# Altium footprint library MLACHM_M.PCBLIB: 91 footprints (part 1 of 7)
Each footprint in its own frame and in the unit in brackets; x right, y up, seen from the top. Pads: shape width x height; smd on the part's side, far side on the other; paste and mask are expansions set on the pad; w line width, h text height; cw(c..) or ccw(c..) is an arc to the next point about the centre after c.
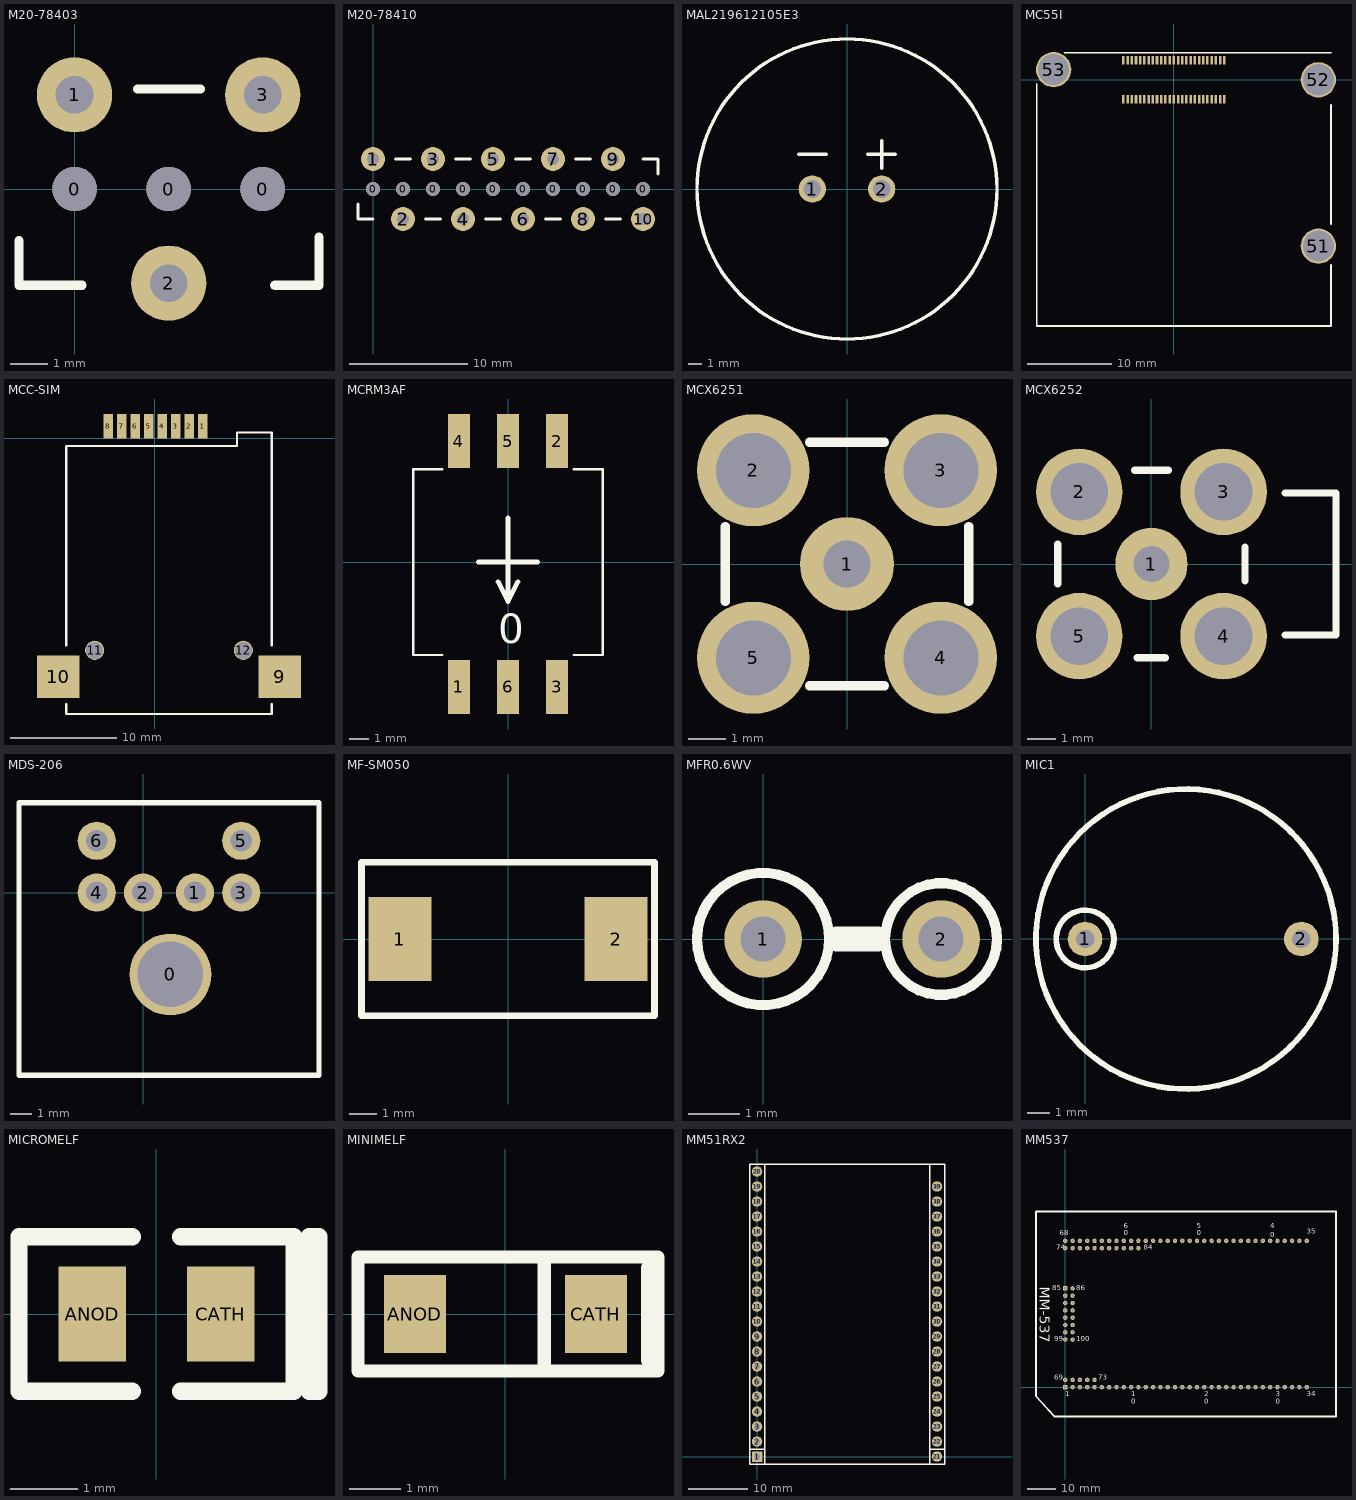
[diagram p0: the footprints below, top view; thin cyan lines are the x and y axes]

## M20-78403 [mm]
pads (6):
  round 1.2 hole 1.2: 0(0,0) 0(2.54,0) 0(5.08,0)
  round 2.032 hole 1.016: 1(0,2.54) 2(2.54,-2.54) 3(5.08,2.54)
TopOverlay:
  lines w0.254: -1.5,-1.4 -1.5,-2.6 0.2,-2.6 ; 1.7,2.7 3.4,2.7 ; 5.4,-2.6 6.6,-2.6 6.6,-1.3
3D body: height 5, standoff -3, extent -1.52,-2.665 6.6,2.665

## M20-78410 [mm]
pads (20):
  round 1.2 hole 1.2: 0(0,0) 0(2.54,0) 0(5.08,0) 0(7.62,0) 0(10.16,0) 0(12.7,0) 0(15.24,0) 0(17.78,0) 0(20.32,0) 0(22.86,0)
  round 2.032 hole 1.016: 1(0,2.54) 2(2.54,-2.54) 3(5.08,2.54) 4(7.62,-2.54) 5(10.16,2.54) 6(12.7,-2.54) 7(15.24,2.54) 8(17.78,-2.54) 9(20.32,2.54) 10(22.86,-2.54)
TopOverlay:
  lines w0.254: -1.27,-1.27 -1.27,-2.54 0,-2.54 ; 1.905,2.54 2.54,2.54 3.175,2.54 ; 4.445,-2.54 5.715,-2.54 ; 6.985,2.54 8.255,2.54 ; 9.525,-2.54 10.795,-2.54 ; 12.065,2.54 13.335,2.54 ; 14.605,-2.54 15.875,-2.54 ; 17.145,2.54 18.415,2.54 ; 19.685,-2.54 20.955,-2.54 ; 22.86,2.54 23.495,2.54 24.13,2.54 24.13,1.27
3D body: height 5, standoff -3, extent -1.52,-2.665 24.38,2.665

## MAL219612105E3 [mm]
pads (2):
  round 2 hole 1.3: 1(-2.54,0) 2(2.54,0)
TopOverlay:
  circle w0.254: c0,0 r11
  lines w0.254: -3.556,2.54 -1.524,2.54 ; 1.524,2.54 3.556,2.54 ; 2.54,1.524 2.54,3.556
3D body: height 9, standoff 0, extent -10.991,-10.978 10.922,10.978

## MC55I [mm]
pads (53):
  rect 0.3x1 smd: 1(6,-2.3) 2(5.5,-2.3) 3(5,-2.3) 4(4.5,-2.3) 5(4,-2.3) 6(3.5,-2.3) 7(3,-2.3) 8(2.5,-2.3) 9(2,-2.3) 10(1.5,-2.3) 11(1,-2.3) 12(0.5,-2.3) 13(0,-2.3) 14(-0.5,-2.3) 15(-1,-2.3) 16(-1.5,-2.3) 17(-2,-2.3) 18(-2.5,-2.3) 19(-3,-2.3) 20(-3.5,-2.3) 21(-4,-2.3) 22(-4.5,-2.3) 23(-5,-2.3) 24(-5.5,-2.3) 25(-6,-2.3) 26(-6,2.3) 27(-5.5,2.3) 28(-5,2.3) 29(-4.5,2.3) 30(-4,2.3) 31(-3.5,2.3) 32(-3,2.3) 33(-2.5,2.3) 34(-2,2.3) 35(-1.5,2.3) 36(-1,2.3) 37(-0.5,2.3) 38(0,2.3) 39(0.5,2.3) 40(1,2.3) 41(1.5,2.3) 42(2,2.3) 43(2.5,2.3) 44(3,2.3) 45(3.5,2.3) 46(4,2.3) 47(4.5,2.3) 48(5,2.3) 49(5.5,2.3) 50(6,2.3)
  round 4.2 hole 3.7: 51(17.2,-19.8) 52(17.2,0) 53(-14.3,1.2)
TopOverlay:
  lines w0.203: -16.3,-0.5 -16.3,-29.3 18.7,-29.3 18.7,-22 ; -13,3.2 18.7,3.2 ; 18.7,-17.2 18.7,-3

## MCC-SIM [mm]
pads (12):
  rect 0.9x2.3 smd: 1(4.52,1.15) 2(3.25,1.15) 3(1.98,1.15) 4(0.71,1.15) 5(-0.56,1.15) 6(-1.83,1.15) 7(-3.1,1.15) 8(-4.37,1.15)
  rect 4x4 smd: 9(11.775,-22.45) 10(-9.075,-22.45)
  round 1.8 hole 1.6: 11(-5.65,-19.95) 12(8.35,-19.95)
TopOverlay:
  lines w0.203: -8.325,-25 -8.325,-25.95 11.025,-25.95 11.025,-25 ; -8.325,-19.5 -8.325,-0.7 7.76,-0.7 7.76,0.55 11.025,0.55 11.025,-19.5

## MCRM3AF [mil]
pads (6):
  rect 45x110 smd: 1(-100,-253.94) 2(100,246.06) 3(100,-253.94) 4(-100,246.06) 5(0,246.06) 6(0,-253.94)
TopOverlay:
  lines w5: -133.86,-188.98 -192.91,-188.98 -192.91,188.98 -133.86,188.98 ; 133.86,-188.98 192.91,-188.98 192.91,188.98 133.86,188.98
  lines w10: -60,0 60,0 ; -20,-40 0,-80 ; 0,90 0,-80 ; 20,-40 0,-80
  text "0" at -20,-165 h60

## MCX6251 [mil]
pads (5):
  round 100 hole 50: 1(0,0)
  round 120 hole 80: 2(-100,100) 3(100,100) 4(100,-100) 5(-100,-100)
TopOverlay:
  lines w10: -130,-40 -130,40 ; -40,-130 40,-130 ; -40,130 40,130 ; 130,-40 130,40

## MCX6252 [mil]
pads (5):
  round 100 hole 50: 1(0,0)
  round 120 hole 80: 2(-100,100) 3(100,100) 4(100,-100) 5(-100,-100)
TopOverlay:
  lines w10: -129.92,-27.56 -129.92,27.56 ; -23.62,129.92 23.62,129.92 ; -19.68,-129.92 19.68,-129.92 ; 129.92,-23.62 129.92,23.62 ; 185.04,-98.43 255.91,-98.43 255.91,98.43 185.04,98.43
3D body: height 216.54, standoff 19.68, extent 118.11,-98.43 255.91,98.43
3D body: height 236.22, standoff 0, extent -118.11,-118.11 118.11,118.11
3D body: height 90.55, standoff 0, extent -19.68,-19.68 19.68,19.68
3D body: height 90.55, standoff 0, extent -119.69,-119.69 -80.31,-80.31
3D body: height 90.55, standoff 0, extent 80.31,-119.69 119.69,-80.31
3D body: height 90.55, standoff 0, extent 80.31,80.31 119.69,119.69
3D body: height 90.55, standoff 0, extent -119.69,80.31 -80.31,119.69

## MDS-206 [mil]
pads (7):
  round 150 hole 120: 0(50,-150)
  round 70 hole 40: 1(95,0) 2(0,0) 3(180,0) 4(-85,0) 5(180,95) 6(-85,95)
TopOverlay:
  lines w10: -227.5,-335 -227.5,165 322.5,165 322.5,-335 -227.5,-335

## MF-SM050 [mil]
pads (2):
  rect 90x120 smd: 1(-155,0) 2(155,0)
TopOverlay:
  lines w10: -210,-110 -210,110 210,110 210,-110 -210,-110

## MFR0.6WV [mil]
pads (2):
  round 60 hole 35: 1(0,0) 2(137.8,0)
TopOverlay:
  circle w7.87: c0,0 r51.18
  circle w7.87: c137.8,0 r43.31
  lines w19.68: 57.09,0 88.58,0
3D body: height 354.24, standoff 330.71, extent -9.84,-11.79 147.64,11.79
3D body: height 354.33, standoff -39.37, extent 125.98,-11.81 149.51,11.76
3D body: height 354.33, standoff -39.37, extent -10.73,-11.79 12.8,11.79
3D body: height 303.15, standoff 59.06, extent -46.87,-47.15 47.24,47.15
3D body: height 248.03, standoff 236.22, extent -51.18,-51.18 50.78,50.98
3D body: height 267.72, standoff 255.91, extent -51.18,-51.18 50.78,50.98
3D body: height 287.4, standoff 275.59, extent -51.18,-51.18 50.78,50.98
3D body: height 228.35, standoff 216.54, extent -51.18,-51.18 50.78,50.98

## MIC1 [mil]
pads (2):
  round 60 hole 32: 1(0,0) 2(375,0)
TopOverlay:
  circle w10: c175,0 r260
  circle w10: c0,0 r50

## MICROMELF [mm]
pads (2):
  rect 1x1.4 smd: ANOD(-0.95,0) CATH(0.95,0)
TopOverlay:
  lines w0.254: -0.358,-1.143 -2.034,-1.143 -2.034,1.143 -0.358,1.143 ; 0.358,-1.143 2.034,-1.143 2.034,1 ; 0.358,1.143 2.034,1.143 ; 2.263,-1.143 2.407,-1.143 2.407,1.143 2.263,1.143 2.263,-1.143
3D body: height 1.2, standoff 0, extent 0.725,-0.6 0.975,0.598
3D body: height 1.15, standoff 0.05, extent -0.75,-0.548 0.75,0.55
3D body: height 1.2, standoff 0, extent -0.975,-0.598 -0.725,0.6
3D body: height 1.17, standoff 0.02, extent 0.425,-0.575 0.575,0.573

## MINIMELF [mm]
height 1.35
pads (2):
  rect 1.2x1.5 smd: ANOD(-1.75,0) CATH(1.75,0)
TopOverlay:
  lines w0.254: 1.6,-1.1 -2.85,-1.1 -2.85,1.1 1.6,1.1 ; 2.75,-0.9 2.75,0.9 ; 0.75,-1.1 0.75,1.1 2.95,1.1 2.95,-1.1 0.75,-1.1
3D body: height 1.49, standoff 0, extent 1.65,-0.747 1.75,0.75
3D body: height 1.49, standoff 0, extent -1.75,-0.75 -1.65,0.747
3D body: height 1.49, standoff 0, extent -1.65,-0.749 0,0.749
3D body: height 1.49, standoff 0, extent 0,-0.749 1.65,0.749

## MM51RX2 [mil]
pads (39):
  rect 70x70 hole 40: 1(0,0)
  round 70 hole 40: 2(0,100) 3(0,200) 4(0,300) 5(0,400) 6(0,500) 7(0,600) 8(0,700) 9(0,800) 10(0,900) 11(0,1000) 12(0,1100) 13(0,1200) 14(0,1300) 15(0,1400) 16(0,1500) 17(0,1600) 18(0,1700) 19(0,1800) 20(0,1900) 21(1200,0) 22(1200,100) 23(1200,200) 24(1200,300) 25(1200,400) 26(1200,500) 27(1200,600) 28(1200,700) 29(1200,800) 30(1200,900) 31(1200,1000) 32(1200,1100) 33(1200,1200) 34(1200,1300) 35(1200,1400) 36(1200,1500) 37(1200,1600) 38(1200,1700) 39(1200,1800)
TopOverlay:
  lines w10: -50,50 50,50 ; 1150,50 1250,50 ; 50,-50 50,1950 ; 50,-50 -50,-50 -50,1950 50,1950 ; 50,-50 1150,-50 ; 50,1950 1150,1950 ; 1150,-50 1150,1950 ; 1150,-50 1250,-50 1250,1950 1150,1950

## MM537 [mil]
pads (100):
  rect 60x60 hole 32: 1(0,0) 85(0,1350)
  round 60 hole 32: 2(100,0) 3(200,0) 4(300,0) 5(400,0) 6(500,0) 7(600,0) 8(700,0) 9(800,0) 10(900,0) 11(1000,0) 12(1100,0) 13(1200,0) 14(1300,0) 15(1400,0) 16(1500,0) 17(1600,0) 18(1700,0) 19(1800,0) 20(1900,0) 21(2000,0) 22(2100,0) 23(2200,0) 24(2300,0) 25(2400,0) 26(2500,0) 27(2600,0) 28(2700,0) 29(2800,0) 30(2900,0) 31(3000,0) 32(3100,0) 33(3200,0) 34(3300,0) 35(3300,2000) 36(3200,2000) 37(3100,2000) 38(3000,2000) 39(2900,2000) 40(2800,2000) 41(2700,2000) 42(2600,2000) 43(2500,2000) 44(2400,2000) 45(2300,2000) 46(2200,2000) 47(2100,2000) 48(2000,2000) 49(1900,2000) 50(1800,2000) 51(1700,2000) 52(1600,2000) 53(1500,2000) 54(1400,2000) 55(1300,2000) 56(1200,2000) 57(1100,2000) 58(1000,2000) 59(900,2000) 60(800,2000) 61(700,2000) 62(600,2000) 63(500,2000) 64(400,2000) 65(300,2000) 66(200,2000) 67(100,2000) 68(0,2000) 69(0,100) 70(100,100) 71(200,100) 72(300,100) 73(400,100) 74(0,1900) 75(100,1900) 76(200,1900) 77(300,1900) 78(400,1900) 79(500,1900) 80(600,1900) 81(700,1900) 82(800,1900) 83(900,1900) 84(1000,1900) 86(100,1350) 87(0,1250) 88(100,1250) 89(0,1150) 90(100,1150) 91(0,1050) 92(100,1050) 93(0,950) 94(100,950) 95(0,850) 96(100,850) 97(0,750) 98(100,750) 99(0,650) 100(100,650)
TopOverlay:
  lines w25: -400,-125 -150,-400 ; -400,-125 -150,-400 ; -400,-125 -400,2400 3700,2400 3700,-400 -150,-400
  text "0" at 2875,-225 h70
  text "0" at 1900,-225 h70
  text "0" at 900,-225 h70
  text "0" at 2800,2050 h70
  text "0" at 1800,2075 h70
  text "0" at 800,2075 h70
  text "6" at 800,2175 h70
  text "5" at 1800,2175 h70
  text "4" at 2800,2175 h70
  text "3" at 2875,-125 h70
  text "2" at 1900,-125 h70
  text "1" at 900,-125 h70
  text "34" at 3300,-125 h70
  text "35" at 3300,2100 h70
  text "84" at 1075,1875 h70
  text "68" at -75,2075 h70
  text "74" at -125,1875 h70
  text "73" at 450,100 h70
  text "1" at 0,-125 h70
  text "69" at -150,100 h70
  text "100" at 150,625 h70
  text "99" at -150,625 h70
  text "86" at 150,1325 h70
  text "85" at -175,1325 h70
  text "MM-537" at -350,1375 h140